# EAGLE library part 7499111614 (library Wurth Electronics Midcom Inc V1-0)
Package Style: HPLE RJ45 Gigabit STD Mounting: THT LED: G/O-Y Shield: 293-0544 Header: 183-0144 Windings Primary: Aux: Secondary: Best pinouts for production vary per application. Please contact Wurth Electronics Midcom, Inc. for assistance with your custom design. Datasheet: 7499111614 <http://katalog.we-online.de/kataloge/eisos/media/pdf/7499111614.pdf> Website: Wurth Electronics Midcom <http://www.we-online.com/midcom> Contact us Wurth Electronics Midcom, Inc. 121 Airport Dr. Watertown, SD 57201 Phone: (605) 886-4385 Fax: (605) 886-4486 E-Mail: midcom@we-online.com
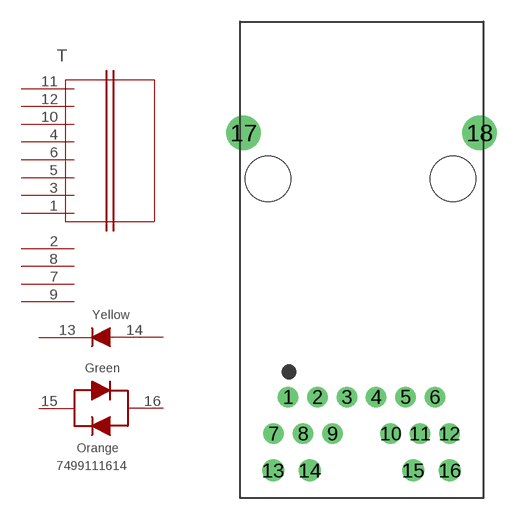
[diagram p181: symbol with the pads of 01LAN_RJ45_GIGABIT_G/O-Y_STD; footprint 01LAN_RJ45_GIGABIT_G/O-Y_STD]

Designator prefix T

## 7499111614  [01LAN_RJ45_GIGABIT_G/O-Y_STD]
1  8  pas
2  9  pas
3  7  pas
4  4  pas
5  6  pas
6  5  pas
7  11  pas
8  10  pas
9  12  pas
10  3  pas
11  1  pas
12  2  pas
13  13  pas
14  14  pas
15  15  pas
16  16  pas

## Footprint 01LAN_RJ45_GIGABIT_G/O-Y_STD (pad centres in mm)
Package Style: RJ45 Gigabit ST Mounting: THT LED: G/O-Y
drill 0.914 round: 1 -5.08,-9.525; 2 -3.048,-9.525; 3 -1.016,-9.525; 4 1.016,-9.525; 5 3.048,-9.525; 6 5.08,-9.525; 7 -6.083,-12.065; 8 -4.051,-12.065; 9 -2.019,-12.065; 10 2.019,-12.065; 11 4.051,-12.065; 12 6.083,-12.065
drill 1.016 round: 13 -6.121,-14.605; 14 -3.581,-14.605; 15 3.581,-14.605; 16 6.121,-14.605
drill 1.6 round: 17 -8.179,8.788; 18 8.179,8.788
hole 3.15 at -6.477,5.613
hole 3.15 at 6.35,5.613